# Altium footprint library DMP3013SFV7.PcbLib: 1 footprints
Each footprint in its own frame and in the unit in brackets; x right, y up, seen from the top. Pads: shape width x height; smd on the part's side, far side on the other; paste and mask are expansions set on the pad; w line width, h text height; cw(c..) or ccw(c..) is an arc to the next point about the centre after c.
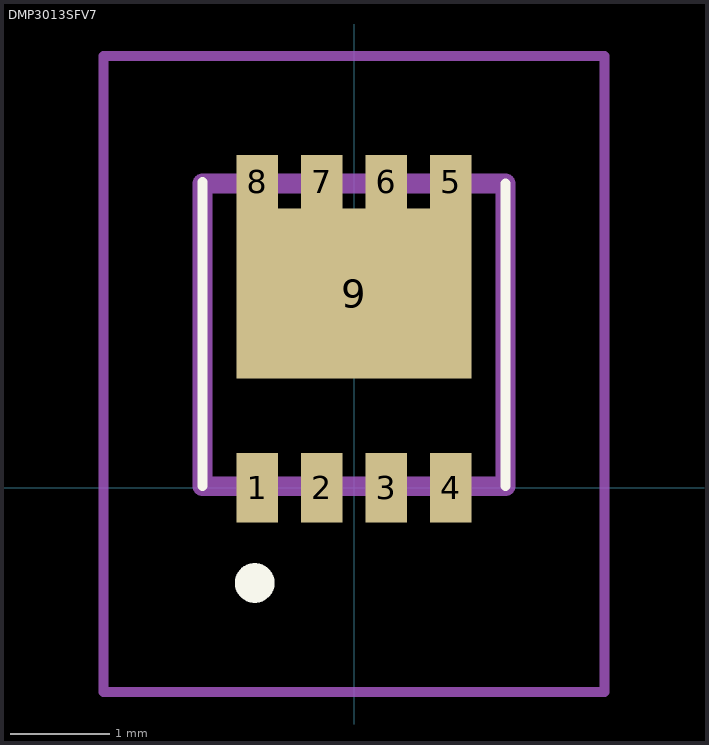
[diagram p0: the footprint, top view; thin cyan lines are the x and y axes]

## DMP3013SFV7 [mm]
pads (9):
  rect 0.42x0.7 smd: 1(-0.975,0) 2(-0.325,0) 3(0.325,0) 4(0.975,0)
  rect 0.42x0.54 smd: 5(0.975,3.08) 6(0.325,3.08) 7(-0.325,3.08) 8(-0.975,3.08)
  rect 2.37x1.71 smd: 9(0,1.955)
Top Overlay:
  lines w0.1: -1.525,0.015 -1.525,3.08 ; 1.525,0.015 1.525,3.065
  lines w0.2: -1,-1.06 cw(c-1,-0.96) -1,-0.86 ; -1,-1.06 -1,-1.06 ; -1,-1.06 ccw(c-1,-0.96) -1,-0.86 ; -1,-0.86 -1,-0.86
Mechanical 15:
  lines w0.2: -1.525,0.015 1.525,0.015 1.525,3.065 -1.525,3.065 -1.525,0.015
Mechanical 20:
  lines w0.1: -2.525,-2.06 2.525,-2.06 2.525,4.35 -2.525,4.35 -2.525,-2.06